# Altium footprint library PcbLib1.PcbLib: 27 footprints (part 2 of 2)
Each footprint in its own frame and in the unit in brackets; x right, y up, seen from the top. Pads: shape width x height; smd on the part's side, far side on the other; paste and mask are expansions set on the pad; w line width, h text height; cw(c..) or ccw(c..) is an arc to the next point about the centre after c.
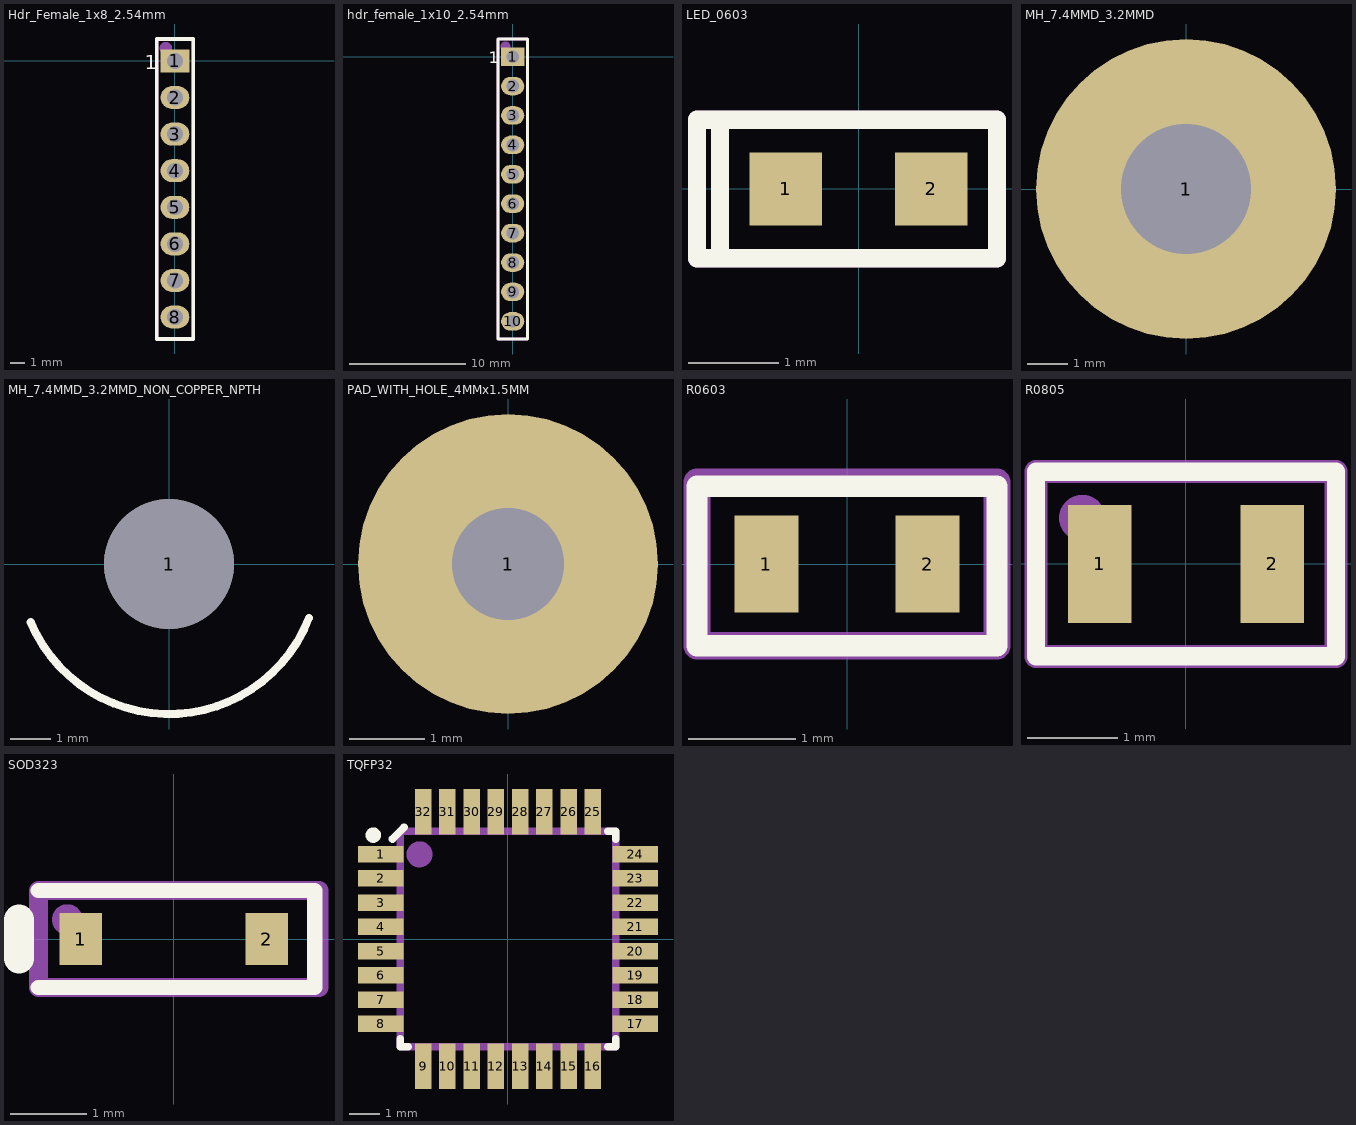
[diagram p1: the footprints below, top view; thin cyan lines are the x and y axes]

## Hdr_Female_1x8_2.54mm [mm]
pads (8):
  rect 2x1.6 hole 1.1: 1(0,0)
  oval 2x1.6 hole 1.1: 2(0,-2.54) 3(0,-5.08) 4(0,-7.62) 5(0,-10.16) 6(0,-12.7) 7(0,-15.24) 8(0,-17.78)
Top Overlay:
  lines w0.254: -1.27,-18.923 -1.27,1.524 1.27,1.524 1.27,-19.304 -1.27,-19.304 -1.27,-18.669
  text "1" at -2.086,-0.562 h1
Mechanical 29:
  circle w0.5: c-0.635,0.889 r0.18
  lines w0.254: -1.27,-19.304 1.27,-19.304 1.27,1.524 -1.27,1.524 -1.27,-19.177
  text ".Designator" at 0.635,-17.145 h1.52
3D body "m20-7820842_asm.stp": height 8.51, standoff -2.99, extent -1.123,-19.304 1.377,1.416

## hdr_female_1x10_2.54mm [mm]
pads (10):
  rect 2x1.6 hole 1.1: 1(0,0)
  oval 2x1.6 hole 1.1: 2(0,-2.54) 3(0,-5.08) 4(0,-7.62) 5(0,-10.16) 6(0,-12.7) 7(0,-15.24) 8(0,-17.78) 9(0,-20.32) 10(0,-22.86)
Top Overlay:
  lines w0.254: -1.27,-24.384 -1.27,-23.876 -1.27,1.524 1.27,1.524 1.27,-24.384 -1.27,-24.384
  text "1" at -2.086,-0.562 h1
Mechanical 29:
  circle w0.5: c-0.635,0.889 r0.18
  lines w0.254: -1.27,-24.384 1.27,-24.384 1.27,1.524 -1.27,1.524 -1.27,-24.384
  text ".Designator" at 0.635,-17.145 h1.52
3D body "m20-7821046_asm.stp": height 8.51, standoff -2.99, extent -1.143,-24.33 1.357,1.47

## LED_0603 [mm]
pads (2):
  rect 0.8x0.8 smd: 1(-0.8,0) 2(0.8,0)
Top Overlay:
  lines w0.2: -1.524,-0.762 -1.523,-0.762 1.524,-0.762 1.524,0.762 -1.524,0.762 ; -1.524,-0.762 -1.524,0 -1.524,0.762 ; -1.524,-0.762 -1.778,-0.762 -1.778,0.762 -1.524,0.762
Mechanical 29:
  lines w0.2: -1.524,-0.762 -1.524,0.762 ; -1.778,-0.762 1.524,-0.762 1.524,0.762 -1.778,0.762 -1.778,-0.762
  text ".Designator" at -1.043,-0.208 h0.6
3D body "User Library-LED SMD 0603 super red.STEP": height 0.66, standoff 0.01, extent -0.85,-0.4 0.85,0.4
3D body: height 0.66, standoff 0.66, extent -0.254,-0.254 0.254,0.254

## MH_7.4MMD_3.2MMD [mm]
pads (1):
  round 7.4 hole 3.2: 1(0,0)

## MH_7.4MMD_3.2MMD_NON_COPPER_NPTH [mm]
pads (1):
  round 3.2 hole 3.2 unplated: 1(0,0)
Top Overlay:
  lines w0.2: -3.41,-1.436 ccw(c0,0) 3.453,-1.328

## PAD_WITH_HOLE_4MMx1.5MM [mm]
pads (1):
  round 4 hole 1.5: 1(0,0)

## PCBComponent_1 [mm]

## R0603 [mm]
pads (2):
  rect 0.6x0.9 smd: 1(-0.75,0) 2(0.75,0)
Top Overlay:
  lines w0.2: -1.397,0.702 -1.397,-0.02 -1.397,-0.762 1.397,-0.762 1.397,0.722 -1.397,0.722
Mechanical 29:
  lines w0.254: -1.397,-0.762 -1.397,0.762 1.397,0.762 1.397,-0.762 -1.397,-0.762
  text ".Designator" at -0.789,-0.081 h0.6
3D body "R0603.step": height 0.85, standoff 0.01, extent -0.762,-0.4 0.838,0.4

## R0805 [mm]
pads (2):
  rect 0.7x1.3 smd: 1(-0.95,0) 2(0.95,0)
Top Overlay:
  lines w0.2: -1.651,-1.016 1.651,-1.016 1.651,1.016 -1.651,1.016 -1.651,-1.016
Mechanical 29:
  circle w0.254: c-1.143,0.508 r0.127
  lines w0.254: -1.651,-1.016 -1.651,1.016 1.651,1.016 1.651,-1.016 -1.651,-1.016
  text ".Designator" at -1.016,-0.296 h1.02
3D body "User Library-Chip Resistor2.step": height 0.71, standoff 0.01, extent -1.016,-0.6 0.984,0.6

## SOD323 [mil]
pads (2):
  rect 22x27 smd: 1(-48,0) 2(48,0)
Top Overlay:
  lines w7.87: -70,-25 72.75,-25 72.75,25 -70,25
  lines w15.75: -80,-10 -80,10
Mechanical 29:
  circle w5.91: c-55,10 r5
  lines w9.84: -70,-25 -70,25 75,25 75,-25 -70,-25
3D body "User Library-SOD323.STEP": height 39.37, standoff 0.39, extent -49.21,-25 49.21,24.21

## TQFP32 [mm]
pads (32):
  rect 1.5x0.55 smd mask+0.06: 1(-4.2,2.8) 2(-4.2,2) 3(-4.2,1.2) 4(-4.2,0.4) 5(-4.2,-0.4) 6(-4.2,-1.2) 7(-4.2,-2) 8(-4.2,-2.8) 17(4.2,-2.8) 18(4.2,-2) 19(4.2,-1.2) 20(4.2,-0.4) 21(4.2,0.4) 22(4.2,1.2) 23(4.2,2) 24(4.2,2.8)
  rect 0.55x1.5 smd mask+0.06: 9(-2.8,-4.2) 10(-2,-4.2) 11(-1.2,-4.2) 12(-0.4,-4.2) 13(0.4,-4.2) 14(1.2,-4.2) 15(2,-4.2) 16(2.8,-4.2) 25(2.8,4.2) 26(2,4.2) 27(1.2,4.2) 28(0.4,4.2) 29(-0.4,4.2) 30(-1.2,4.2) 31(-2,4.2) 32(-2.8,4.2)
Top Overlay:
  circle w0.254: c-4.445,3.429 r0.127
  lines w0.254: -3.81,3.302 -3.429,3.683 ; -3.556,-3.302 -3.556,-3.556 -3.302,-3.556 ; 3.302,-3.556 3.556,-3.556 3.556,-3.302 ; 3.302,3.556 3.556,3.556 3.556,3.302
Mechanical 29:
  circle w0.5: c-2.921,2.794 r0.18
  lines w0.254: 3.556,1.397 3.556,3.175 ; 3.556,3.556 3.556,-3.556 -3.556,-3.556 -3.556,3.556 3.556,3.556 ; 3.556,3.556 3.556,3.429 3.556,3.556
  text ".Designator" at 0.3,0.9 h1.8
3D body "User Library-tqfp32.step": height 1.2, standoff 0, extent -4.627,-4.599 4.572,4.599